# EAGLE library part MCP4922 (library ic)
Microchip MCP4922 Dual 12-Bit DAC with SPI interface
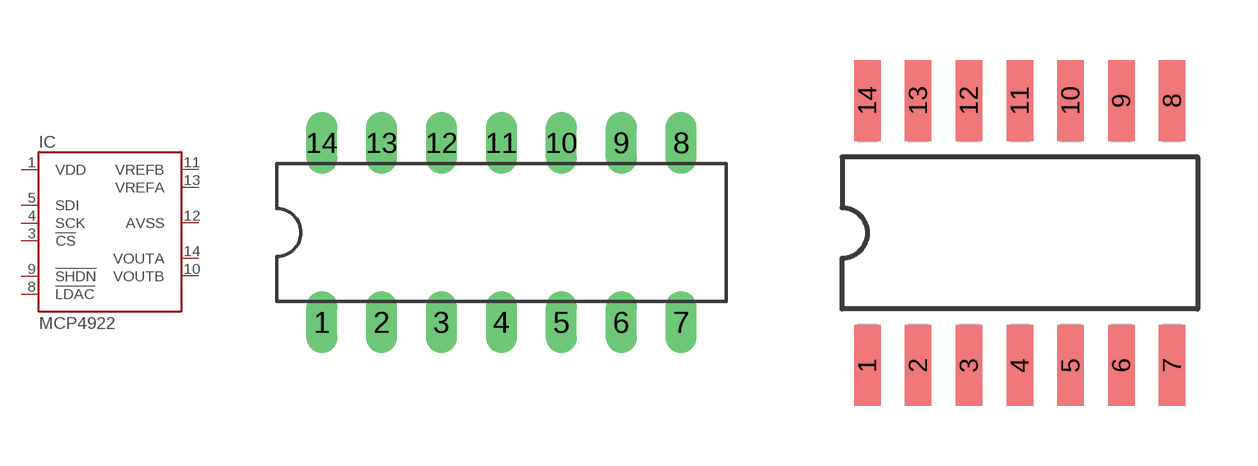
[diagram p0: symbol with the pads of DIL-14; footprints DIL-14, SOIC-14]

Designator prefix IC

## MCP4922D  [DIL-14]
1  VDD  pwr
3  !CS  in
4  SCK  in
5  SDI  in
8  !LDAC  in
9  !SHDN  in
10  VOUTB  pas
11  VREFB  in
12  AVSS  pwr
13  VREFA  in
14  VOUTA  pas

## MCP4922S  [SOIC-14]
Pads as for DIL-14

## MCP4922T  [TSSOP-14]
Pads as for DIL-14

## Footprint DIL-14 (pad centres in mm)
Dual In Line Package
drill 0.813 long: 1 -7.62,-3.81; 2 -5.08,-3.81; 3 -2.54,-3.81; 4 0,-3.81; 5 2.54,-3.81; 6 5.08,-3.81; 7 7.62,-3.81; 8 7.62,3.81; 9 5.08,3.81; 10 2.54,3.81; 11 0,3.81; 12 -2.54,3.81; 13 -5.08,3.81; 14 -7.62,3.81

## Footprint SOIC-14 (pad centres in mm)
Lead Plastic Small Outline
smd 0.66 x 2.032: 1 -4.445,-3.315; 2 -3.175,-3.315; 3 -1.905,-3.315; 4 -0.635,-3.315; 5 0.635,-3.315; 6 1.905,-3.315; 7 3.175,-3.315; 8 3.175,3.315; 9 1.905,3.315; 10 0.635,3.315; 11 -0.635,3.315; 12 -1.905,3.315; 13 -3.175,3.315; 14 -4.445,3.315

## Footprint TSSOP-14 (pad centres in mm)
Thin Shrink Small Outline Package
smd 0.35 x 0.9: 1 -1.95,-2.875; 2 -1.3,-2.875; 3 -0.65,-2.875; 4 0,-2.875; 5 0.65,-2.875; 6 1.3,-2.875; 7 1.95,-2.875; 8 1.95,2.825; 9 1.3,2.825; 10 0.65,2.825; 11 0,2.825; 12 -0.65,2.825; 13 -1.3,2.825; 14 -1.95,2.825